# Altium integrated library 7794.IntLib: 1 symbol
Pins are listed as number, name and electrical type; pins without a type are passive.

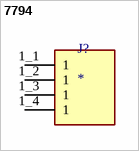
[diagram p0: symbol 7794]

## 7794
designator J?
PC SCREW TERMINAL | Keystone Electronics 7794; MP: 7794; SnapEDA_Link: https://www.snapeda.com/parts/7794/Keystone/view-part/?ref=snap; Package: None; Value: *; MF: Keystone Electronics; Check_prices: https://www.snapeda.com/parts/7794/Keystone/view-part/?ref=eda
footprint KEYSTONE_7794
pins: 1_1 1, 1_2 1, 1_3 1, 1_4 1